# Altium footprint library DIN41612_32_2row_straight_mother.PcbLib: 1 footprints
Each footprint in its own frame and in the unit in brackets; x right, y up, seen from the top. Pads: shape width x height; smd on the part's side, far side on the other; paste and mask are expansions set on the pad; w line width, h text height; cw(c..) or ccw(c..) is an arc to the next point about the centre after c.
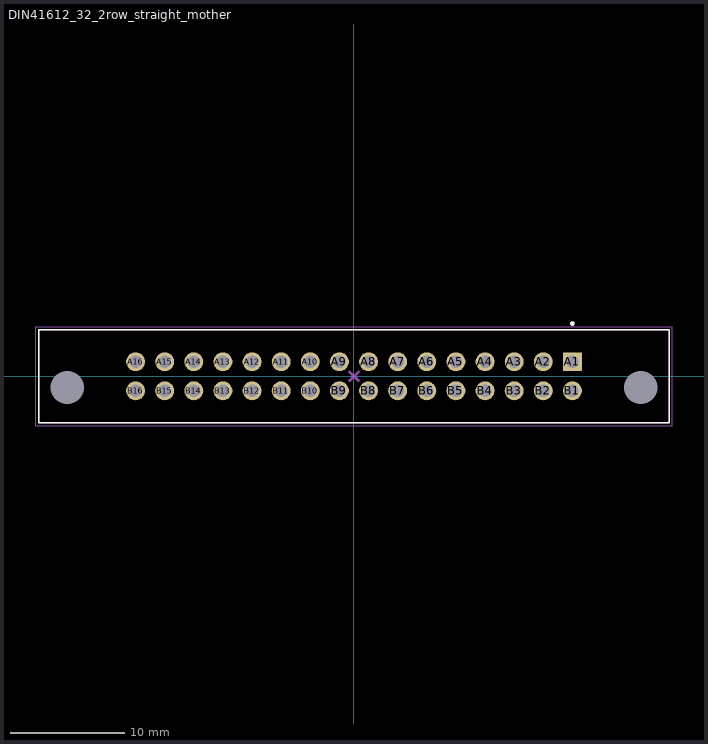
[diagram p0: the footprint, top view; thin cyan lines are the x and y axes]

## DIN41612_32_2row_straight_mother [mm]
pads (34):
  rect 1.65x1.65 / inner round 1.65 / far side rect 1.65x1.65 hole 1.1: A1(19.05,1.27)
  round 1.65 hole 1.1: A2(16.51,1.27) A3(13.97,1.27) A4(11.43,1.27) A5(8.89,1.27) A6(6.35,1.27) A7(3.81,1.27) A8(1.27,1.27) A9(-1.27,1.27) A10(-3.81,1.27) A11(-6.35,1.27) A12(-8.89,1.27) A13(-11.43,1.27) A14(-13.97,1.27) A15(-16.51,1.27) A16(-19.05,1.27) B1(19.05,-1.27) B2(16.51,-1.27) B3(13.97,-1.27) B4(11.43,-1.27) B5(8.89,-1.27) B6(6.35,-1.27) B7(3.81,-1.27) B8(1.27,-1.27) B9(-1.27,-1.27) B10(-3.81,-1.27) B11(-6.35,-1.27) B12(-8.89,-1.27) B13(-11.43,-1.27) B14(-13.97,-1.27) B15(-16.51,-1.27) B16(-19.05,-1.27)
  round 0 hole 2.9 unplated: ""(-25,-0.97) ""(25,-0.97)
Top Overlay:
  circle w0.2: c19.05,4.6 r0.1
  lines w0.15: -27.5,-4.05 -27.5,4.05 27.5,4.05 27.5,-4.05 -27.5,-4.05
Mechanical 13:
  circle w0.2: c19.05,4.6 r0.1
  lines w0.15: -27.5,-4.05 -27.5,4.05 27.5,4.05 27.5,-4.05 -27.5,-4.05
  lines w0.254: -0.381,-0.381 0.381,0.381 ; -0.381,0.381 0.381,-0.381
Mechanical 15:
  lines w0.05: -27.75,-4.3 -27.75,4.3 27.75,4.3 27.75,-4.3 -27.75,-4.3
3D body "9222326850.stp": height 11.6, standoff -4.5, extent -27.45,-4 27.45,4